# Altium footprint library Capacitor_Ceramic.PcbLib: 6 footprints
Each footprint in its own frame and in the unit in brackets; x right, y up, seen from the top. Pads: shape width x height; smd on the part's side, far side on the other; paste and mask are expansions set on the pad; w line width, h text height; cw(c..) or ccw(c..) is an arc to the next point about the centre after c.
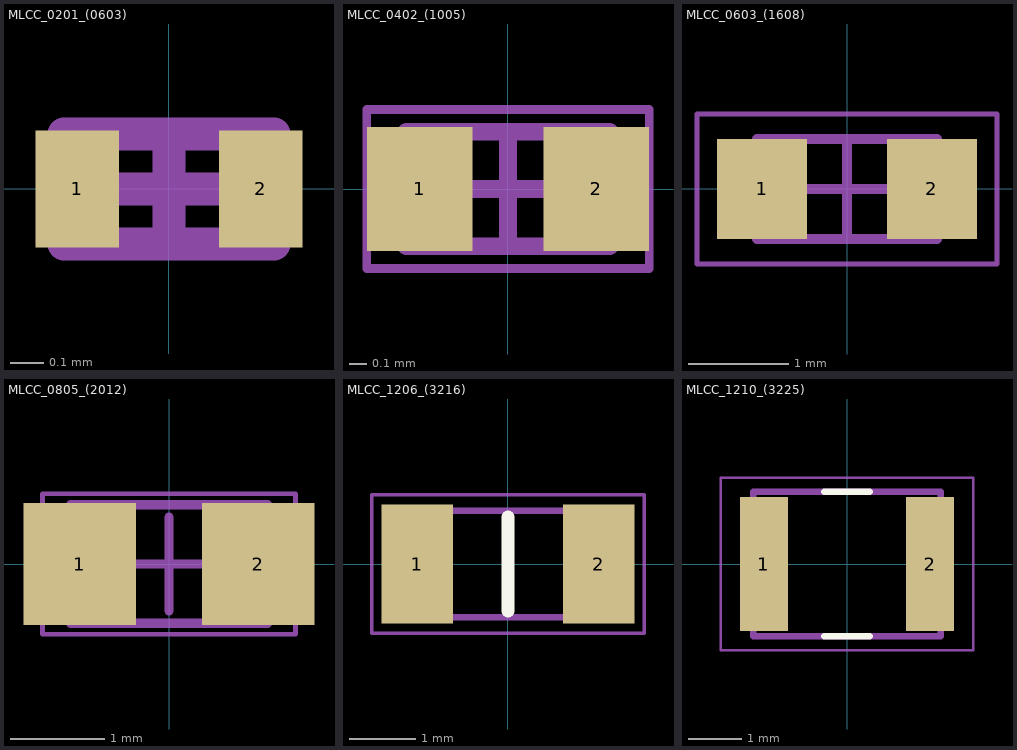
[diagram p0: the footprints below, top view; thin cyan lines are the x and y axes]

## MLCC_0201_(0603) [mm]
height 0.3
pads (2):
  rect 0.25x0.35 smd mask+0.051: 1(-0.275,0) 2(0.275,0)
Mechanical 13:
  lines w0.1: -0.315,-0.165 0.315,-0.165 0.315,0.165 -0.315,0.165 -0.315,-0.165
Mechanical 15:
  lines w0.05: -0.315,-0.165 0.315,-0.165 0.315,0.165 -0.315,0.165 -0.315,-0.165
  lines w0.1: -0.165,0 0.165,0 ; 0,-0.165 0,0.165
3D body "CAPC0603X03L.step": height 0.3, standoff 0, extent -0.315,-0.165 0.315,0.165

## MLCC_0402_(1005) [mm]
pads (2):
  rect 0.6x0.7 smd: 1(-0.5,0) 2(0.5,0)
Mechanical 13:
  lines w0.1: -0.575,-0.325 0.575,-0.325 0.575,0.325 -0.575,0.325 -0.575,-0.325
Mechanical 15:
  lines w0.05: -0.8,-0.45 0.8,-0.45 0.8,0.45 -0.8,0.45 -0.8,-0.45
  lines w0.1: -0.325,0 0.325,0 ; 0,-0.325 0,0.325
3D body "CAPC1005X06L.step": height 0.65, standoff 0, extent -0.575,-0.325 0.575,0.325

## MLCC_0603_(1608) [mm]
height 1
pads (2):
  rect 0.9x1 smd: 1(-0.85,0) 2(0.85,0)
Mechanical 13:
  lines w0.1: -0.9,-0.5 0.9,-0.5 0.9,0.5 -0.9,0.5 -0.9,-0.5
Mechanical 15:
  lines w0.05: -1.5,-0.75 1.5,-0.75 1.5,0.75 -1.5,0.75 -1.5,-0.75
  lines w0.1: -0.5,0 0.5,0 ; 0,-0.5 0,0.5
3D body "CAPC1608X10N.step": height 1, standoff 0, extent -0.9,-0.5 0.9,0.5

## MLCC_0805_(2012) [mm]
height 1.26
pads (2):
  rect 1.2x1.3 smd: 1(-0.95,0) 2(0.95,0)
Mechanical 13:
  lines w0.1: -1.05,-0.63 -1.05,0.63 1.05,0.63 1.05,-0.63 -1.05,-0.63
Mechanical 15:
  lines w0.05: -1.35,-0.75 -1.35,0.75 1.35,0.75 1.35,-0.75 -1.35,-0.75
  lines w0.1: -0.5,0 0.5,0 ; 0,-0.5 0,0.5
3D body "CAPC2012X13L.step": height 1.26, standoff 0, extent -1.05,-0.63 1.05,0.63

## MLCC_1206_(3216) [mm]
pads (2):
  rect 1.07x1.78 smd: 1(-1.36,0) 2(1.36,0)
Top Overlay:
  lines w0.2: 0,-0.7 0,0.7
Mechanical 13:
  lines w0.1: -1.6,-0.8 1.6,-0.8 1.6,0.8 -1.6,0.8 -1.6,-0.8
Mechanical 15:
  lines w0.05: -2.045,-1.04 2.045,-1.04 2.045,1.04 -2.045,1.04 -2.045,-1.04
3D body "HMK316B7105KL-T.stp": height 1.8, standoff 0, extent -1.6,-0.8 1.6,0.8

## MLCC_1210_(3225) [mm]
pads (2):
  rect 0.9x2.5 smd: 1(-1.55,0) 2(1.55,0)
Top Overlay:
  lines w0.127: -0.42,-1.35 0.42,-1.35 ; -0.42,1.35 0.42,1.35
Mechanical 13:
  lines w0.127: -1.75,-1.35 1.75,-1.35 1.75,1.35 -1.75,1.35 -1.75,-1.35
Mechanical 15:
  lines w0.05: -2.355,-1.608 2.355,-1.608 2.355,1.608 -2.355,1.608 -2.355,-1.608
3D body "GRM32ER71H475KA88L.step": height 2.5, standoff 0, extent -1.6,-1.37 1.6,1.33